# Altium footprint library PLCC-68.PcbLib: 1 footprints
Each footprint in its own frame and in the unit in brackets; x right, y up, seen from the top. Pads: shape width x height; smd on the part's side, far side on the other; paste and mask are expansions set on the pad; w line width, h text height; cw(c..) or ccw(c..) is an arc to the next point about the centre after c.
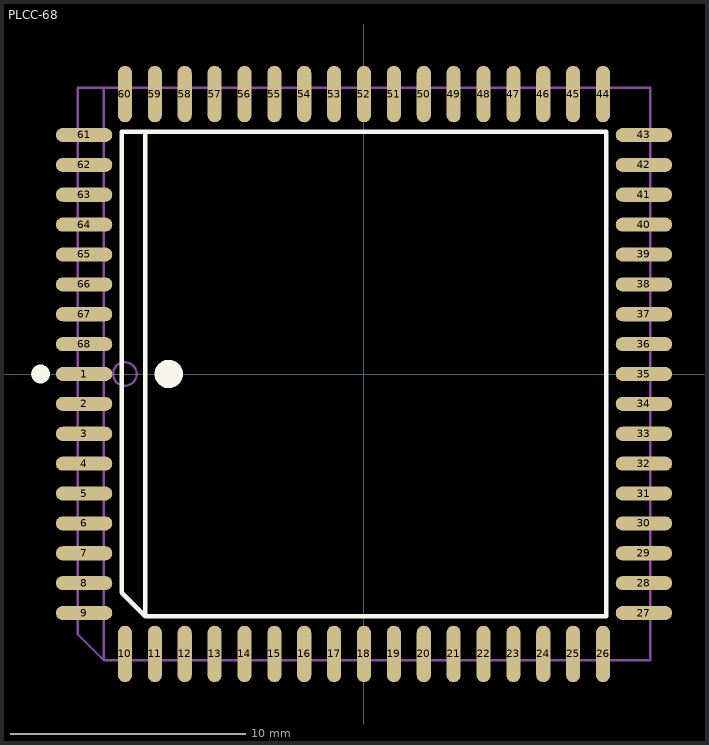
[diagram p0: the footprint, top view; thin cyan lines are the x and y axes]

## PLCC-68 [mm]
pads (68):
  oval 2.4x0.6 smd: 1(-11.9,0) 2(-11.9,-1.27) 3(-11.9,-2.54) 4(-11.9,-3.81) 5(-11.9,-5.08) 6(-11.9,-6.35) 7(-11.9,-7.62) 8(-11.9,-8.89) 9(-11.9,-10.16) 27(11.9,-10.16) 28(11.9,-8.89) 29(11.9,-7.62) 30(11.9,-6.35) 31(11.9,-5.08) 32(11.9,-3.81) 33(11.9,-2.54) 34(11.9,-1.27) 35(11.9,0) 36(11.9,1.27) 37(11.9,2.54) 38(11.9,3.81) 39(11.9,5.08) 40(11.9,6.35) 41(11.9,7.62) 42(11.9,8.89) 43(11.9,10.16) 61(-11.9,10.16) 62(-11.9,8.89) 63(-11.9,7.62) 64(-11.9,6.35) 65(-11.9,5.08) 66(-11.9,3.81) 67(-11.9,2.54) 68(-11.9,1.27)
  oval 0.6x2.4 smd: 10(-10.16,-11.9) 11(-8.89,-11.9) 12(-7.62,-11.9) 13(-6.35,-11.9) 14(-5.08,-11.9) 15(-3.81,-11.9) 16(-2.54,-11.9) 17(-1.27,-11.9) 18(0,-11.9) 19(1.27,-11.9) 20(2.54,-11.9) 21(3.81,-11.9) 22(5.08,-11.9) 23(6.35,-11.9) 24(7.62,-11.9) 25(8.89,-11.9) 26(10.16,-11.9) 44(10.16,11.9) 45(8.89,11.9) 46(7.62,11.9) 47(6.35,11.9) 48(5.08,11.9) 49(3.81,11.9) 50(2.54,11.9) 51(1.27,11.9) 52(0,11.9) 53(-1.27,11.9) 54(-2.54,11.9) 55(-3.81,11.9) 56(-5.08,11.9) 57(-6.35,11.9) 58(-7.62,11.9) 59(-8.89,11.9) 60(-10.16,11.9)
Top Overlay:
  circle w0.4: c-13.75,0 r0.2
  circle w0.6: c-8.3,0 r0.3
  lines w0.2: -9.3,10.3 -9.3,-10.3 ; -9.3,-10.3 10.3,-10.3 10.3,10.3 -10.3,10.3 -10.3,-9.3 -9.3,-10.3
Mechanical 13:
  circle w0.1: c-10.165,0 r0.5
  lines w0.1: -11.065,12.165 -11.065,-12.165 ; -11.065,-12.165 -12.165,-11.065 -12.165,12.165 12.165,12.165 12.165,-12.165 -11.065,-12.165